# Altium schematic symbol library BTA41.SchLib: 1 symbol
Pins are listed as number, name and electrical type; pins without a type are passive.

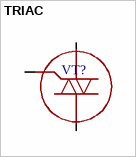
[diagram p0: symbol TRIAC]

## TRIAC
designator VT?
footprint TOP3
pins: 1 A1, 2 A2, 3 G